# Altium footprint library CRCW06031M00FKEA.PcbLib: 1 footprints
Each footprint in its own frame and in the unit in brackets; x right, y up, seen from the top. Pads: shape width x height; smd on the part's side, far side on the other; paste and mask are expansions set on the pad; w line width, h text height; cw(c..) or ccw(c..) is an arc to the next point about the centre after c.
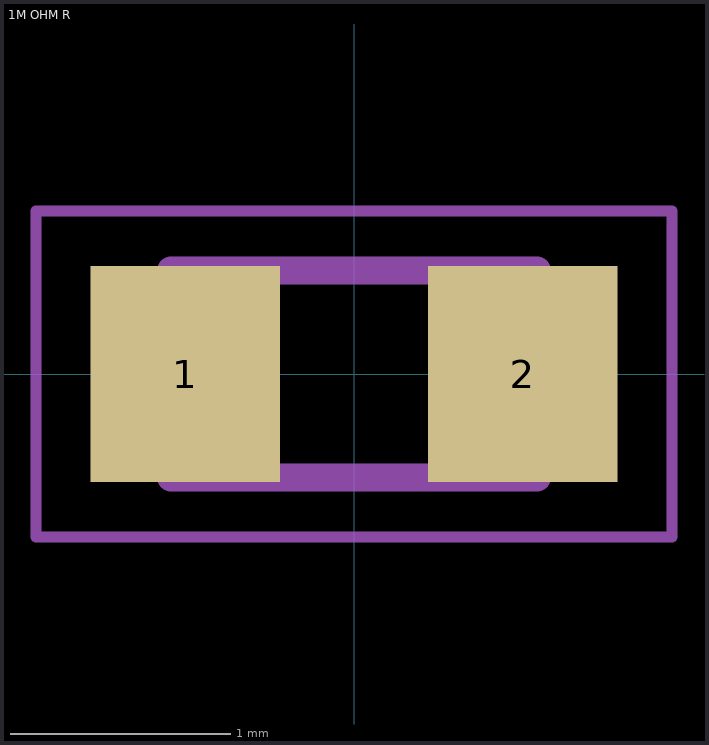
[diagram p0: the footprint, top view; thin cyan lines are the x and y axes]

## 1M OHM R [mm]
pads (2):
  rect 0.86x0.98 smd: 1(-0.765,0) 2(0.765,0)
Mechanical 13:
  lines w0.127: -0.83,-0.47 -0.83,0.47 ; -0.83,-0.47 0.83,-0.47 ; -0.83,-0.47 -0.83,0.47 ; -0.83,-0.47 0.83,-0.47 ; -0.83,0.47 0.83,0.47 ; -0.83,0.47 0.83,0.47 ; 0.83,-0.47 0.83,0.47 ; 0.83,-0.47 0.83,0.47
Mechanical 15:
  lines w0.05: -1.444,-0.74 -1.444,0.74 1.444,0.74 1.444,-0.74 -1.444,-0.74